# Altium integrated library LTST-S270KRKT.IntLib: 1 symbol
Pins are listed as number, name and electrical type; pins without a type are passive.

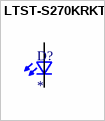
[diagram p0: symbol LTST-S270KRKT]

## LTST-S270KRKT
designator D?
http://octopart.com/ltst-c190tbkt-lite-on-550003; MF: {'manufacturer': u'Lite-On Inc.'}; MP: LTST-S270KRKT; Package: None; Price: None; Value: *; Availability: Unavailable
footprint 0603
pins: 1 K2, 2 A2